# Altium footprint library ProjectAir_PcbLib.PcbLib: 19 footprints (part 2 of 2)
Each footprint in its own frame and in the unit in brackets; x right, y up, seen from the top. Pads: shape width x height; smd on the part's side, far side on the other; paste and mask are expansions set on the pad; w line width, h text height; cw(c..) or ccw(c..) is an arc to the next point about the centre after c.
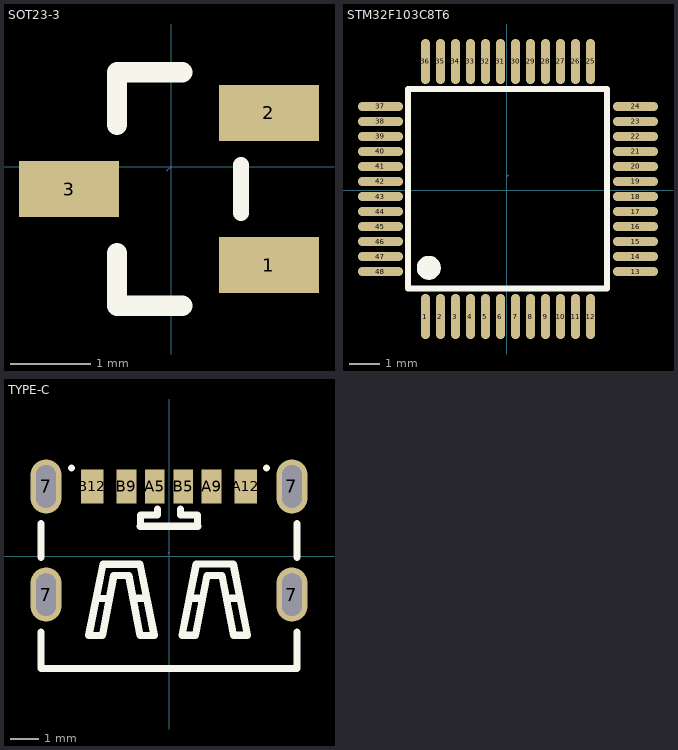
[diagram p1: the footprints below, top view; thin cyan lines are the x and y axes]

## SOT23-3 [mm] "SC662K-3.3V"
pads (3):
  rect 1.25x0.7 smd: 1(1.224,-1.23) 2(1.224,0.67) 3(-1.275,-0.28)
Top Overlay:
  lines w0.2: 0.875,-0.58 0.875,0.02
  lines w0.254: -0.675,-1.08 -0.675,-1.74 0.14,-1.74 ; 0.14,1.18 -0.675,1.18 ; -0.675,0.52 -0.675,1.18 ; -0.675,0.52 -0.675,1.18 ; -0.675,0.52 -0.675,1.18
Mechanical 15:
  lines w0.003: -0.051,-0.051 0,0

## STM32F103C8T6 [mm]
pads (48):
  oval 0.3x1.5 smd: 1(-2.703,-4.203) 2(-2.203,-4.203) 3(-1.703,-4.203) 4(-1.203,-4.203) 5(-0.703,-4.203) 6(-0.203,-4.203) 7(0.297,-4.203) 8(0.797,-4.203) 9(1.297,-4.203) 10(1.797,-4.203) 11(2.297,-4.203) 12(2.797,-4.203) 25(2.797,4.297) 26(2.297,4.297) 27(1.797,4.297) 28(1.297,4.297) 29(0.797,4.297) 30(0.297,4.297) 31(-0.203,4.297) 32(-0.703,4.297) 33(-1.203,4.297) 34(-1.703,4.297) 35(-2.203,4.297) 36(-2.703,4.297)
  oval 1.5x0.3 smd: 13(4.297,-2.703) 14(4.297,-2.203) 15(4.297,-1.703) 16(4.297,-1.203) 17(4.297,-0.703) 18(4.297,-0.203) 19(4.297,0.297) 20(4.297,0.797) 21(4.297,1.297) 22(4.297,1.797) 23(4.297,2.297) 24(4.297,2.797) 37(-4.203,2.797) 38(-4.203,2.297) 39(-4.203,1.797) 40(-4.203,1.297) 41(-4.203,0.797) 42(-4.203,0.297) 43(-4.203,-0.203) 44(-4.203,-0.703) 45(-4.203,-1.203) 46(-4.203,-1.703) 47(-4.203,-2.203) 48(-4.203,-2.703)
Top Overlay:
  lines w0.2: -2.849,3.387 3.349,3.387 3.349,-3.268 -3.28,-3.268 -3.28,3.387 -2.518,3.387
  lines w0.4: -2.595,-2.379 ccw(c-2.593,-2.579) -2.592,-2.379
Mechanical 15:
  lines w0.003: 0.022,0.468 0.072,0.519

## TYPE-C [mm] "TYPE-C 6P"
pads (10):
  oval 1.1x1.899 hole 0.7 slot 1.5 at 90 deg: 7(-4.33,-1.339) 7(-4.33,2.461) 7(4.31,-1.339) 7(4.31,2.461)
  rect 0.7x1.2 smd: A5(-0.51,2.461) A9(1.49,2.461) B5(0.49,2.461) B9(-1.51,2.461)
  rect 0.8x1.2 smd: A12(2.69,2.461) B12(-2.71,2.461)
Top Overlay:
  lines w0.25: -4.51,-2.65 -4.51,-3.939 4.49,-3.939 4.49,-2.65 ; -4.51,-0.028 -4.51,1.15 ; -3.435,3.111 -3.434,3.111 ; -1.02,1.061 1,1.061 ; -1.01,1.061 -1.01,1.461 -0.41,1.461 -0.41,1.661 ; 0.39,1.661 0.39,1.461 0.99,1.461 0.99,1.061 ; 3.414,3.111 3.415,3.111 ; 4.49,-0.028 4.49,1.15
  lines w0.254: -2.528,-1.472 -2.129,-1.472 ; -1.229,-1.471 -0.829,-1.471 ; 0.749,-1.467 1.148,-1.467 ; 2.048,-1.466 2.448,-1.466 ; -2.828,-2.772 -2.33,-0.27 -1.029,-0.27 -0.529,-2.772 -1.024,-2.772 -1.423,-0.672 -1.951,-0.672 -2.353,-2.772 -2.828,-2.772 ; 0.449,-2.767 0.947,-0.265 2.247,-0.265 2.748,-2.767 2.253,-2.767 1.854,-0.667 1.325,-0.667 0.924,-2.767 0.449,-2.767
Mechanical 15:
  lines w0.003: -0.035,0.108 0.015,0.159